# Altium footprint library IFX-PG-TDSON-8-36-V.PcbLib: 1 footprints
Each footprint in its own frame and in the unit in brackets; x right, y up, seen from the top. Pads: shape width x height; smd on the part's side, far side on the other; paste and mask are expansions set on the pad; w line width, h text height; cw(c..) or ccw(c..) is an arc to the next point about the centre after c.
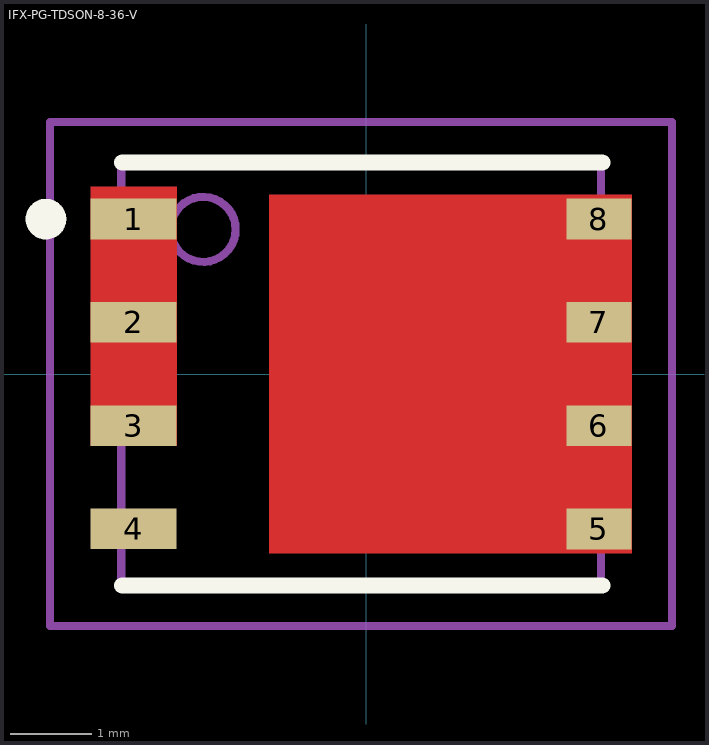
[diagram p0: the footprint, top view; thin cyan lines are the x and y axes]

## IFX-PG-TDSON-8-36-V [mm] "PG-TDSON-8-36, SMD, 1.27 mm pitch, 8 pin, 5.90 mm L X 5.15 mm W X 1.00 mm H body"
height 1
pads (8):
  rect 1.055x0.5 smd paste-0.527 mask+0: 1(-2.861,1.905)
  rect 1.055x0.5 smd paste-0.25 mask+0: 2(-2.861,0.635) 3(-2.861,-0.635) 4(-2.861,-1.905)
  rect 0.8x0.5 smd paste-0.4 mask+0: 5(2.862,-1.905) 6(2.862,-0.635) 7(2.862,0.635) 8(2.862,1.905)
Top Layer:
  region: 3.262,2.205 -1.193,2.205 -1.193,-2.205 3.262,-2.205
  region: -3.388,-0.885 -2.333,-0.885 -2.333,2.305 -3.388,2.305
Top Overlay:
  circle w0.25: c-3.939,1.905 r0.125
  lines w0.2: -3,-2.6 2.9,-2.6 ; -3,2.6 2.9,2.6
Top Paste:
  region: -3.338,-0.435 -2.989,-0.435 -2.989,-0.835 -3.338,-0.835
  region: -3.338,0.835 -2.989,0.835 -2.989,0.435 -3.338,0.435
  region: -3.338,2.105 -2.989,2.105 -2.989,1.705 -3.338,1.705
  region: -2.789,0.065 -2.388,0.065 -2.388,-0.835 -2.789,-0.835
  region: -2.789,1.165 -2.388,1.165 -2.388,0.265 -2.789,0.265
  region: -2.789,2.265 -2.388,2.265 -2.388,1.365 -2.789,1.365
  region: -3.339,-1.705 -2.539,-1.705 -2.539,-2.105 -3.339,-2.105
  region: -0.944,0.1 -0.944,1.8 0.457,1.8 0.457,0.1
  region: 0.656,0.1 0.656,1.8 2.057,1.8 2.057,0.1
  region: 0.656,-1.8 0.656,-0.1 2.057,-0.1 2.057,-1.8
  region: -0.944,-1.8 -0.944,-0.1 0.457,-0.1 0.457,-1.8
  region: 2.411,2.105 3.211,2.105 3.211,1.705 2.411,1.705
  region: 2.411,0.835 3.211,0.835 3.211,0.435 2.411,0.435
  region: 2.411,-0.435 3.211,-0.435 3.211,-0.835 2.411,-0.835
  region: 2.411,-1.705 3.211,-1.705 3.211,-2.105 2.411,-2.105
Top Solder:
  region: -1.193,2.205 2.537,2.205 2.537,-2.205 -1.193,-2.205
  region: -2.838,2.305 -2.333,2.305 -2.333,-0.885 -2.838,-0.885
M3 (ASY_Text_Top):
  text ".DESIGNATOR" at 0,0 h1.2
M13 (CMP_Body_OTL_Top):
  circle w0.1: c-2.006,1.778 r0.4
  lines w0.1: -3.013,-2.575 -3.013,2.575 2.887,2.575 2.887,-2.575 -3.013,-2.575
M15 (CMP_Courtyard_Top):
  lines w0.1: -0.5,0 0.5,0 ; 0,-0.5 0,0.5 ; 3.761,-3.1 -3.889,-3.1 -3.889,3.1 3.761,3.1 ; 3.762,-3.1 3.762,3.1
3D body "PG-TDSON-8-36_Z8B00186404_V03_3D.stp": height 1.01, standoff 0, extent -3.174,-2.705 3.047,2.705